# Altium footprint library Res PTH.PcbLib: 3 footprints
Each footprint in its own frame and in the unit in brackets; x right, y up, seen from the top. Pads: shape width x height; smd on the part's side, far side on the other; paste and mask are expansions set on the pad; w line width, h text height; cw(c..) or ccw(c..) is an arc to the next point about the centre after c.
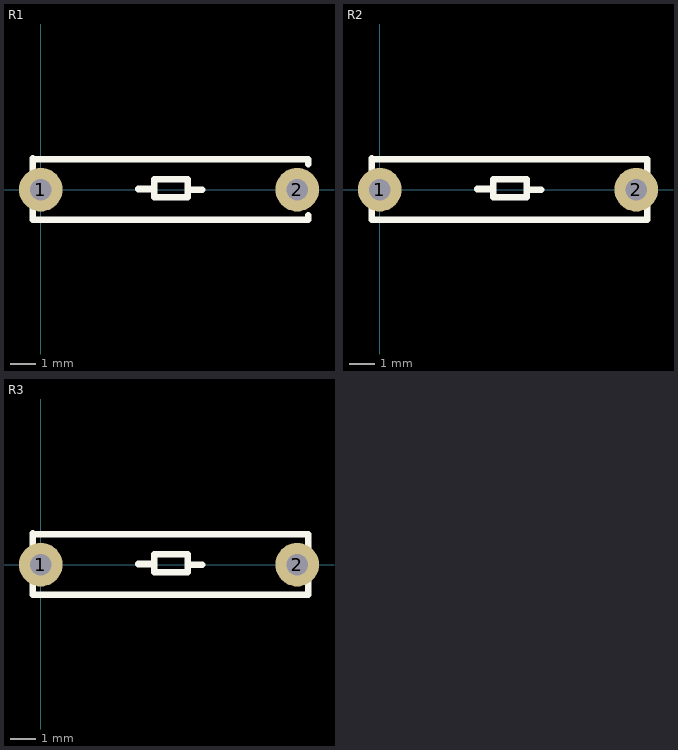
[diagram p0: the footprints below, top view; thin cyan lines are the x and y axes]

## R1 [mm] "82 kOhms ±5% 0.25W, 1/4W Through Hole Resistor Axial Flame Retardant Coating, Safety Carbon Film"
pads (2):
  round 1.7 hole 0.85: 1(0,0) 2(10,0)
Top Overlay:
  lines w0.254: -0.305,1.219 -0.305,-1.168 10.439,-1.168 10.439,-0.991 ; -0.279,1.194 10.439,1.194 10.439,0.991 ; 3.81,0.025 4.42,0.025 ; 5.74,0 6.299,0 ; 4.42,-0.305 4.42,0.406 5.74,0.406 5.74,-0.305 4.42,-0.305
3D body "User Library-AXIAL_RESISTOR(0_25W).step": height 3.1, standoff -1, extent -0.395,-1.2 10.405,1.2

## R2 [mm] "4.7 kOhms ±5% 0.25W, 1/4W Through Hole Resistor Axial Flame Retardant Coating, Safety Carbon Film"
pads (2):
  round 1.7 hole 0.85: 1(0,0) 2(10,0)
Top Overlay:
  lines w0.254: -0.305,1.219 -0.305,-1.168 10.439,-1.168 10.439,1.194 -0.279,1.194 ; 3.81,0.025 4.42,0.025 ; 5.74,0 6.299,0 ; 4.42,-0.305 4.42,0.406 5.74,0.406 5.74,-0.305 4.42,-0.305
3D body "User Library-AXIAL_RESISTOR(0_25W).step": height 3.1, standoff -1, extent -0.395,-1.2 10.405,1.2

## R3 [mm] "1 MOhms ±5% 0.25W, 1/4W Through Hole Resistor Axial Flame Retardant Coating, Safety Carbon Film"
pads (2):
  round 1.7 hole 0.85: 1(0,0) 2(10,0)
Top Overlay:
  lines w0.254: -0.305,1.219 -0.305,-1.168 10.439,-1.168 10.439,1.194 -0.279,1.194 ; 3.81,0.025 4.42,0.025 ; 5.74,0 6.299,0 ; 4.42,-0.305 5.74,-0.305 5.74,0.406 4.42,0.406 4.42,-0.305
3D body "User Library-AXIAL_RESISTOR(0_25W).step": height 3.1, standoff -1, extent -0.395,-1.2 10.405,1.2